# Altium footprint library Embedded.PcbLib: 6 footprints (part 1 of 2)
Each footprint in its own frame and in the unit in brackets; x right, y up, seen from the top. Pads: shape width x height; smd on the part's side, far side on the other; paste and mask are expansions set on the pad; w line width, h text height; cw(c..) or ccw(c..) is an arc to the next point about the centre after c.
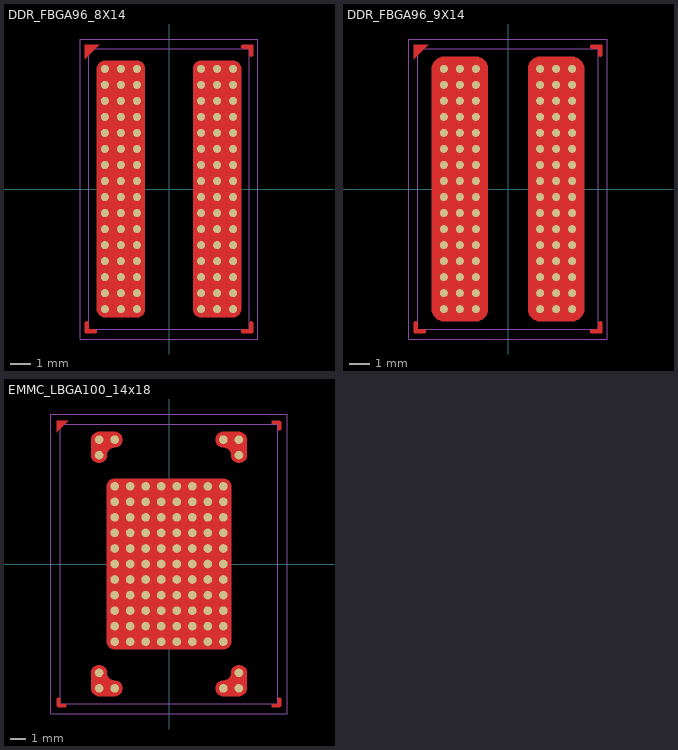
[diagram p0: the footprints below, top view; thin cyan lines are the x and y axes]

## DDR_FBGA96_8X14 [mil] "DDR_8X14"
height 43.31
pads (96):
  round 16 smd mask+2: A1(-125.98,236.22) A2(-94.49,236.22) A3(-62.99,236.22) A7(62.99,236.22) A8(94.49,236.22) A9(125.98,236.22) B1(-125.98,204.72) B2(-94.49,204.72) B3(-62.99,204.72) B7(62.99,204.72) B8(94.49,204.72) B9(125.98,204.72) C1(-125.98,173.23) C2(-94.49,173.23) C3(-62.99,173.23) C7(62.99,173.23) C8(94.49,173.23) C9(125.98,173.23) D1(-125.98,141.73) D2(-94.49,141.73) D3(-62.99,141.73) D7(62.99,141.73) D8(94.49,141.73) D9(125.98,141.73) E1(-125.98,110.24) E2(-94.49,110.24) E3(-62.99,110.24) E7(62.99,110.24) E8(94.49,110.24) E9(125.98,110.24) F1(-125.98,78.74) F2(-94.49,78.74) F3(-62.99,78.74) F7(62.99,78.74) F8(94.49,78.74) F9(125.98,78.74) G1(-125.98,47.24) G2(-94.49,47.24) G3(-62.99,47.24) G7(62.99,47.24) G8(94.49,47.24) G9(125.98,47.24) H1(-125.98,15.75) H2(-94.49,15.75) H3(-62.99,15.75) H7(62.99,15.75) H8(94.49,15.75) H9(125.98,15.75) J1(-125.98,-15.75) J2(-94.49,-15.75) J3(-62.99,-15.75) J7(62.99,-15.75) J8(94.49,-15.75) J9(125.98,-15.75) K1(-125.98,-47.24) K2(-94.49,-47.24) K3(-62.99,-47.24) K7(62.99,-47.24) K8(94.49,-47.24) K9(125.98,-47.24) L1(-125.98,-78.74) L2(-94.49,-78.74) L3(-62.99,-78.74) L7(62.99,-78.74) L8(94.49,-78.74) L9(125.98,-78.74) M1(-125.98,-110.24) M2(-94.49,-110.24) M3(-62.99,-110.24) M7(62.99,-110.24) M8(94.49,-110.24) M9(125.98,-110.24) N1(-125.98,-141.73) N2(-94.49,-141.73) N3(-62.99,-141.73) N7(62.99,-141.73) N8(94.49,-141.73) N9(125.98,-141.73) P1(-125.98,-173.23) P2(-94.49,-173.23) P3(-62.99,-173.23) P7(62.99,-173.23) P8(94.49,-173.23) P9(125.98,-173.23) R1(-125.98,-204.72) R2(-94.49,-204.72) R3(-62.99,-204.72) R7(62.99,-204.72) R8(94.49,-204.72) R9(125.98,-204.72) T1(-125.98,-236.22) T2(-94.49,-236.22) T3(-62.99,-236.22) T7(62.99,-236.22) T8(94.49,-236.22) T9(125.98,-236.22)
Top Layer:
  pour cut-out: -62.99,251.97 -125.98,251.97 -129.12,251.97 -134.9,249.57 -139.33,245.14 -141.73,239.35 -141.73,236.22 -141.73,-236.22 -141.73,-239.35 -139.33,-245.14 -134.9,-249.57 -129.12,-251.97 -125.98,-251.97 -62.99,-251.97 -59.86,-251.97 -54.07,-249.57 -49.64,-245.14 -47.24,-239.35 -47.24,-236.22 -47.24,236.22 -47.24,239.35 -49.64,245.14 -54.07,249.57 -59.86,251.97
  pour cut-out: 125.98,251.97 62.99,251.97 59.86,251.97 54.07,249.57 49.64,245.14 47.24,239.35 47.24,236.22 47.24,-236.22 47.24,-239.35 49.64,-245.14 54.07,-249.57 59.86,-251.97 62.99,-251.97 125.98,-251.97 129.12,-251.97 134.9,-249.57 139.33,-245.14 141.73,-239.35 141.73,-236.22 141.73,236.22 141.73,239.35 139.33,245.14 134.9,249.57 129.12,251.97
  region: 157.94,264.06 157.94,263.26 158.55,261.79 159.68,260.66 161.15,260.06 161.94,260.06 162.74,260.06 164.21,260.66 165.34,261.79 165.94,263.26 165.94,264.06 165.94,280.06 165.94,280.85 165.34,282.32 164.21,283.45 162.74,284.06 161.94,284.06 145.94,284.06 145.15,284.06 143.68,283.45 142.55,282.32 141.94,280.85 141.94,280.06 141.94,279.26 142.55,277.79 143.68,276.66 145.15,276.06 145.94,276.06 155.94,276.06 156.34,276.02 157.06,275.72 157.61,275.17 157.91,274.45 157.94,274.06
  region: 145.94,-276.06 145.15,-276.06 143.68,-276.66 142.55,-277.79 141.94,-279.26 141.94,-280.06 141.94,-280.85 142.55,-282.32 143.68,-283.45 145.15,-284.06 145.94,-284.06 161.94,-284.06 162.74,-284.06 164.21,-283.45 165.34,-282.32 165.94,-280.85 165.94,-280.06 165.94,-264.06 165.94,-263.26 165.34,-261.79 164.21,-260.66 162.74,-260.06 161.94,-260.06 161.15,-260.06 159.68,-260.66 158.55,-261.79 157.94,-263.26 157.94,-264.06 157.94,-274.06 157.91,-274.45 157.61,-275.17 157.06,-275.72 156.34,-276.02 155.94,-276.06
  region: -157.94,-264.06 -157.94,-263.26 -158.55,-261.79 -159.68,-260.66 -161.15,-260.06 -161.94,-260.06 -162.74,-260.06 -164.21,-260.66 -165.34,-261.79 -165.94,-263.26 -165.94,-264.06 -165.94,-280.06 -165.94,-280.85 -165.34,-282.32 -164.21,-283.45 -162.74,-284.06 -161.94,-284.06 -145.94,-284.06 -145.15,-284.06 -143.68,-283.45 -142.55,-282.32 -141.94,-280.85 -141.94,-280.06 -141.94,-279.26 -142.55,-277.79 -143.68,-276.66 -145.15,-276.06 -145.94,-276.06 -155.94,-276.06 -156.34,-276.02 -157.06,-275.72 -157.61,-275.17 -157.91,-274.45 -157.94,-274.06
  region: -165.94,284.06 -165.94,255.51 -137.4,284.06
Top Component Outline:
  lines w1: -175,-295 175,-295 175,295 -175,295 -175,-295
Top 3D Body (Mech16):
  lines w1: -157.48,-275.59 -157.48,275.59 157.48,275.59 157.48,-275.59 -157.48,-275.59
3D body: height 16.84, standoff -2.84, extent -135.79,226.33 -116.19,245.91
3D body: height 16.84, standoff -2.84, extent -135.79,194.83 -116.19,214.42
3D body: height 16.84, standoff -2.84, extent -135.79,163.34 -116.19,182.92
3D body: height 16.84, standoff -2.84, extent -135.79,131.84 -116.19,151.42
3D body: height 16.84, standoff -2.84, extent -135.79,5.86 -116.19,25.44
3D body: height 16.84, standoff -2.84, extent -135.79,37.35 -116.19,56.94
3D body: height 16.84, standoff -2.84, extent -135.79,68.85 -116.19,88.43
3D body: height 16.84, standoff -2.84, extent -135.79,100.34 -116.19,119.93
3D body: height 16.84, standoff -2.84, extent -135.79,-120.13 -116.19,-100.55
3D body: height 16.84, standoff -2.84, extent -135.79,-88.63 -116.19,-69.05
3D body: height 16.84, standoff -2.84, extent -135.79,-57.14 -116.19,-37.55
3D body: height 16.84, standoff -2.84, extent -135.79,-25.64 -116.19,-6.06
3D body: height 16.84, standoff -2.84, extent -135.79,-246.11 -116.19,-226.53
3D body: height 16.84, standoff -2.84, extent -135.79,-214.62 -116.19,-195.03
3D body: height 16.84, standoff -2.84, extent -135.79,-183.12 -116.19,-163.54
3D body: height 16.84, standoff -2.84, extent -135.79,-151.63 -116.19,-132.04
3D body: height 16.84, standoff -2.84, extent -104.29,226.33 -84.69,245.91
3D body: height 16.84, standoff -2.84, extent -104.29,194.83 -84.69,214.42
3D body: height 16.84, standoff -2.84, extent -104.29,163.34 -84.69,182.92
3D body: height 16.84, standoff -2.84, extent -104.29,131.84 -84.69,151.42
3D body: height 16.84, standoff -2.84, extent -104.29,5.86 -84.69,25.44
3D body: height 16.84, standoff -2.84, extent -104.29,37.35 -84.69,56.94
3D body: height 16.84, standoff -2.84, extent -104.29,68.85 -84.69,88.43
3D body: height 16.84, standoff -2.84, extent -104.29,100.34 -84.69,119.93
3D body: height 16.84, standoff -2.84, extent -104.29,-120.13 -84.69,-100.55
3D body: height 16.84, standoff -2.84, extent -104.29,-88.63 -84.69,-69.05
3D body: height 16.84, standoff -2.84, extent -104.29,-57.14 -84.69,-37.55
3D body: height 16.84, standoff -2.84, extent -104.29,-25.64 -84.69,-6.06
3D body: height 16.84, standoff -2.84, extent -104.29,-246.11 -84.69,-226.53
3D body: height 16.84, standoff -2.84, extent -104.29,-214.62 -84.69,-195.03
3D body: height 16.84, standoff -2.84, extent -104.29,-183.12 -84.69,-163.54
3D body: height 16.84, standoff -2.84, extent -104.29,-151.63 -84.69,-132.04
3D body: height 16.84, standoff -2.84, extent -72.8,226.33 -53.19,245.91
3D body: height 16.84, standoff -2.84, extent -72.8,194.83 -53.19,214.42
3D body: height 16.84, standoff -2.84, extent -72.8,163.34 -53.19,182.92
3D body: height 16.84, standoff -2.84, extent -72.8,131.84 -53.19,151.42
3D body: height 16.84, standoff -2.84, extent -72.8,5.86 -53.19,25.44
3D body: height 16.84, standoff -2.84, extent -72.8,37.35 -53.19,56.94
3D body: height 16.84, standoff -2.84, extent -72.8,68.85 -53.19,88.43
3D body: height 16.84, standoff -2.84, extent -72.8,100.34 -53.19,119.93
3D body: height 16.84, standoff -2.84, extent -72.8,-120.13 -53.19,-100.55
3D body: height 16.84, standoff -2.84, extent -72.8,-88.63 -53.19,-69.05
3D body: height 16.84, standoff -2.84, extent -72.8,-57.14 -53.19,-37.55
3D body: height 16.84, standoff -2.84, extent -72.8,-25.64 -53.19,-6.06
3D body: height 16.84, standoff -2.84, extent -72.8,-246.11 -53.19,-226.53
3D body: height 16.84, standoff -2.84, extent -72.8,-214.62 -53.19,-195.03
3D body: height 16.84, standoff -2.84, extent -72.8,-183.12 -53.19,-163.54
3D body: height 16.84, standoff -2.84, extent -72.8,-151.63 -53.19,-132.04
3D body: height 16.84, standoff -2.84, extent 53.19,226.33 72.79,245.91
3D body: height 16.84, standoff -2.84, extent 53.19,194.83 72.79,214.42
3D body: height 16.84, standoff -2.84, extent 53.19,163.34 72.79,182.92
3D body: height 16.84, standoff -2.84, extent 53.19,131.84 72.79,151.42
3D body: height 16.84, standoff -2.84, extent 53.19,5.86 72.79,25.44
3D body: height 16.84, standoff -2.84, extent 53.19,37.35 72.79,56.94
3D body: height 16.84, standoff -2.84, extent 53.19,68.85 72.79,88.43
3D body: height 16.84, standoff -2.84, extent 53.19,100.34 72.79,119.93
3D body: height 16.84, standoff -2.84, extent 53.19,-120.13 72.79,-100.55
3D body: height 16.84, standoff -2.84, extent 53.19,-88.63 72.79,-69.05
3D body: height 16.84, standoff -2.84, extent 53.19,-57.14 72.79,-37.55
3D body: height 16.84, standoff -2.84, extent 53.19,-25.64 72.79,-6.06
3D body: height 16.84, standoff -2.84, extent 53.19,-246.11 72.79,-226.53
3D body: height 16.84, standoff -2.84, extent 53.19,-214.62 72.79,-195.03
3D body: height 16.84, standoff -2.84, extent 53.19,-183.12 72.79,-163.54
3D body: height 16.84, standoff -2.84, extent 53.19,-151.63 72.79,-132.04
3D body: height 16.84, standoff -2.84, extent 84.68,226.33 104.29,245.91
3D body: height 16.84, standoff -2.84, extent 84.68,194.83 104.29,214.42
3D body: height 16.84, standoff -2.84, extent 84.68,163.34 104.29,182.92
3D body: height 16.84, standoff -2.84, extent 84.68,131.84 104.29,151.42
3D body: height 16.84, standoff -2.84, extent 84.68,5.86 104.29,25.44
3D body: height 16.84, standoff -2.84, extent 84.68,37.35 104.29,56.94
3D body: height 16.84, standoff -2.84, extent 84.68,68.85 104.29,88.43
3D body: height 16.84, standoff -2.84, extent 84.68,100.34 104.29,119.93
3D body: height 16.84, standoff -2.84, extent 84.68,-120.13 104.29,-100.55
3D body: height 16.84, standoff -2.84, extent 84.68,-88.63 104.29,-69.05
3D body: height 16.84, standoff -2.84, extent 84.68,-57.14 104.29,-37.55
3D body: height 16.84, standoff -2.84, extent 84.68,-25.64 104.29,-6.06
3D body: height 16.84, standoff -2.84, extent 84.68,-246.11 104.29,-226.53
3D body: height 16.84, standoff -2.84, extent 84.68,-214.62 104.29,-195.03
3D body: height 16.84, standoff -2.84, extent 84.68,-183.12 104.29,-163.54
3D body: height 16.84, standoff -2.84, extent 84.68,-151.63 104.29,-132.04
3D body: height 16.84, standoff -2.84, extent 116.18,226.33 135.78,245.91
3D body: height 16.84, standoff -2.84, extent 116.18,194.83 135.78,214.42
3D body: height 16.84, standoff -2.84, extent 116.18,163.34 135.78,182.92
3D body: height 16.84, standoff -2.84, extent 116.18,131.84 135.78,151.42
3D body: height 16.84, standoff -2.84, extent 116.18,5.86 135.78,25.44
3D body: height 16.84, standoff -2.84, extent 116.18,37.35 135.78,56.94
3D body: height 16.84, standoff -2.84, extent 116.18,68.85 135.78,88.43
3D body: height 16.84, standoff -2.84, extent 116.18,100.34 135.78,119.93
3D body: height 16.84, standoff -2.84, extent 116.18,-120.13 135.78,-100.55
3D body: height 16.84, standoff -2.84, extent 116.18,-88.63 135.78,-69.05
3D body: height 16.84, standoff -2.84, extent 116.18,-57.14 135.78,-37.55
3D body: height 16.84, standoff -2.84, extent 116.18,-25.64 135.78,-6.06
3D body: height 16.84, standoff -2.84, extent 116.18,-246.11 135.78,-226.53
3D body: height 16.84, standoff -2.84, extent 116.18,-214.62 135.78,-195.03
3D body: height 16.84, standoff -2.84, extent 116.18,-183.12 135.78,-163.54
3D body: height 16.84, standoff -2.84, extent 116.18,-151.63 135.78,-132.04
3D body: height 43.31, standoff 11.81, extent -157.48,-275.59 157.48,275.59
3D body: height 43.4, standoff 43, extent -135.9,235.94 -115.98,255.9

## DDR_FBGA96_9X14 [mil] "DDR3L X16 9X14MM"
pads (96):
  round 16 smd mask+2: A1(-125.98,236.22) A2(-94.49,236.22) A3(-62.99,236.22) A7(62.99,236.22) A8(94.49,236.22) A9(125.98,236.22) B1(-125.98,204.72) B2(-94.49,204.72) B3(-62.99,204.72) B7(62.99,204.72) B8(94.49,204.72) B9(125.98,204.72) C1(-125.98,173.23) C2(-94.49,173.23) C3(-62.99,173.23) C7(62.99,173.23) C8(94.49,173.23) C9(125.98,173.23) D1(-125.98,141.73) D2(-94.49,141.73) D3(-62.99,141.73) D7(62.99,141.73) D8(94.49,141.73) D9(125.98,141.73) E1(-125.98,110.24) E2(-94.49,110.24) E3(-62.99,110.24) E7(62.99,110.24) E8(94.49,110.24) E9(125.98,110.24) F1(-125.98,78.74) F2(-94.49,78.74) F3(-62.99,78.74) F7(62.99,78.74) F8(94.49,78.74) F9(125.98,78.74) G1(-125.98,47.24) G2(-94.49,47.24) G3(-62.99,47.24) G7(62.99,47.24) G8(94.49,47.24) G9(125.98,47.24) H1(-125.98,15.75) H2(-94.49,15.75) H3(-62.99,15.75) H7(62.99,15.75) H8(94.49,15.75) H9(125.98,15.75) J1(-125.98,-15.75) J2(-94.49,-15.75) J3(-62.99,-15.75) J7(62.99,-15.75) J8(94.49,-15.75) J9(125.98,-15.75) K1(-125.98,-47.24) K2(-94.49,-47.24) K3(-62.99,-47.24) K7(62.99,-47.24) K8(94.49,-47.24) K9(125.98,-47.24) L1(-125.98,-78.74) L2(-94.49,-78.74) L3(-62.99,-78.74) L7(62.99,-78.74) L8(94.49,-78.74) L9(125.98,-78.74) M1(-125.98,-110.24) M2(-94.49,-110.24) M3(-62.99,-110.24) M7(62.99,-110.24) M8(94.49,-110.24) M9(125.98,-110.24) N1(-125.98,-141.73) N2(-94.49,-141.73) N3(-62.99,-141.73) N7(62.99,-141.73) N8(94.49,-141.73) N9(125.98,-141.73) P1(-125.98,-173.23) P2(-94.49,-173.23) P3(-62.99,-173.23) P7(62.99,-173.23) P8(94.49,-173.23) P9(125.98,-173.23) R1(-125.98,-204.72) R2(-94.49,-204.72) R3(-62.99,-204.72) R7(62.99,-204.72) R8(94.49,-204.72) R9(125.98,-204.72) T1(-125.98,-236.22) T2(-94.49,-236.22) T3(-62.99,-236.22) T7(62.99,-236.22) T8(94.49,-236.22) T9(125.98,-236.22)
Top Layer:
  region: -185.63,284.06 -185.63,255.51 -157.09,284.06
  pour cut-out: 62.99,259.84 125.98,259.84 130.68,259.84 139.37,256.25 146.01,249.6 149.61,240.92 149.61,236.22 149.61,-236.22 149.61,-240.92 146.01,-249.6 139.37,-256.25 130.68,-259.84 125.98,-259.84 62.99,-259.84 58.29,-259.84 49.61,-256.25 42.97,-249.6 39.37,-240.92 39.37,-236.22 39.37,236.22 39.37,240.92 42.97,249.6 49.61,256.25 58.29,259.84
  pour cut-out: -125.98,259.84 -62.99,259.84 -58.29,259.84 -49.61,256.25 -42.97,249.6 -39.37,240.92 -39.37,236.22 -39.37,-236.22 -39.37,-240.92 -42.97,-249.6 -49.61,-256.25 -58.29,-259.84 -62.99,-259.84 -125.98,-259.84 -130.68,-259.84 -139.37,-256.25 -146.01,-249.6 -149.61,-240.92 -149.61,-236.22 -149.61,236.22 -149.61,240.92 -146.01,249.6 -139.37,256.25 -130.68,259.84
  region: 177.63,264.06 177.63,263.26 178.24,261.79 179.36,260.66 180.83,260.06 181.63,260.06 182.43,260.06 183.9,260.66 185.02,261.79 185.63,263.26 185.63,264.06 185.63,280.06 185.63,280.85 185.02,282.32 183.9,283.45 182.43,284.06 181.63,284.06 165.63,284.06 164.83,284.06 163.36,283.45 162.24,282.32 161.63,280.85 161.63,280.06 161.63,279.26 162.24,277.79 163.36,276.66 164.83,276.06 165.63,276.06 175.63,276.06 176.02,276.02 176.74,275.72 177.29,275.17 177.59,274.45 177.63,274.06
  region: 165.63,-276.06 164.83,-276.06 163.36,-276.66 162.24,-277.79 161.63,-279.26 161.63,-280.06 161.63,-280.85 162.24,-282.32 163.36,-283.45 164.83,-284.06 165.63,-284.06 181.63,-284.06 182.43,-284.06 183.9,-283.45 185.02,-282.32 185.63,-280.85 185.63,-280.06 185.63,-264.06 185.63,-263.26 185.02,-261.79 183.9,-260.66 182.43,-260.06 181.63,-260.06 180.83,-260.06 179.36,-260.66 178.24,-261.79 177.63,-263.26 177.63,-264.06 177.63,-274.06 177.59,-274.45 177.29,-275.17 176.74,-275.72 176.02,-276.02 175.63,-276.06
  region: -177.63,-264.06 -177.63,-263.26 -178.24,-261.79 -179.36,-260.66 -180.83,-260.06 -181.63,-260.06 -182.43,-260.06 -183.9,-260.66 -185.02,-261.79 -185.63,-263.26 -185.63,-264.06 -185.63,-280.06 -185.63,-280.85 -185.02,-282.32 -183.9,-283.45 -182.43,-284.06 -181.63,-284.06 -165.63,-284.06 -164.83,-284.06 -163.36,-283.45 -162.24,-282.32 -161.63,-280.85 -161.63,-280.06 -161.63,-279.26 -162.24,-277.79 -163.36,-276.66 -164.83,-276.06 -165.63,-276.06 -175.63,-276.06 -176.02,-276.02 -176.74,-275.72 -177.29,-275.17 -177.59,-274.45 -177.63,-274.06
Top Component Outline:
  lines w1: -195,-295 195,-295 195,295 -195,295 -195,-295
Top 3D Body (Mech16):
  lines w1: -177.17,-275.59 177.17,-275.59 177.17,275.59 -177.17,275.59 -177.17,-275.59
3D body: height 43.31, standoff 11.81, extent -177.17,-275.59 177.17,275.59
3D body: height 16.84, standoff -2.84, extent 116.18,-151.63 135.78,-132.04
3D body: height 16.84, standoff -2.84, extent 116.18,-183.12 135.78,-163.54
3D body: height 16.84, standoff -2.84, extent 116.18,-214.62 135.78,-195.03
3D body: height 16.84, standoff -2.84, extent 116.18,-246.11 135.78,-226.53
3D body: height 16.84, standoff -2.84, extent 116.18,-25.64 135.78,-6.06
3D body: height 16.84, standoff -2.84, extent 116.18,-57.14 135.78,-37.55
3D body: height 16.84, standoff -2.84, extent 116.18,-88.63 135.78,-69.05
3D body: height 16.84, standoff -2.84, extent 116.18,-120.13 135.78,-100.55
3D body: height 16.84, standoff -2.84, extent 116.18,100.34 135.78,119.93
3D body: height 16.84, standoff -2.84, extent 116.18,68.85 135.78,88.43
3D body: height 16.84, standoff -2.84, extent 116.18,37.35 135.78,56.94
3D body: height 16.84, standoff -2.84, extent 116.18,5.86 135.78,25.44
3D body: height 16.84, standoff -2.84, extent 116.18,131.84 135.78,151.42
3D body: height 16.84, standoff -2.84, extent 116.18,163.34 135.78,182.92
3D body: height 16.84, standoff -2.84, extent 116.18,194.83 135.78,214.42
3D body: height 16.84, standoff -2.84, extent 116.18,226.33 135.78,245.91
3D body: height 16.84, standoff -2.84, extent 84.68,-151.63 104.29,-132.04
3D body: height 16.84, standoff -2.84, extent 84.68,-183.12 104.29,-163.54
3D body: height 16.84, standoff -2.84, extent 84.68,-214.62 104.29,-195.03
3D body: height 16.84, standoff -2.84, extent 84.68,-246.11 104.29,-226.53
3D body: height 16.84, standoff -2.84, extent 84.68,-25.64 104.29,-6.06
3D body: height 16.84, standoff -2.84, extent 84.68,-57.14 104.29,-37.55
3D body: height 16.84, standoff -2.84, extent 84.68,-88.63 104.29,-69.05
3D body: height 16.84, standoff -2.84, extent 84.68,-120.13 104.29,-100.55
3D body: height 16.84, standoff -2.84, extent 84.68,100.34 104.29,119.93
3D body: height 16.84, standoff -2.84, extent 84.68,68.85 104.29,88.43
3D body: height 16.84, standoff -2.84, extent 84.68,37.35 104.29,56.94
3D body: height 16.84, standoff -2.84, extent 84.68,5.86 104.29,25.44
3D body: height 16.84, standoff -2.84, extent 84.68,131.84 104.29,151.42
3D body: height 16.84, standoff -2.84, extent 84.68,163.34 104.29,182.92
3D body: height 16.84, standoff -2.84, extent 84.68,194.83 104.29,214.42
3D body: height 16.84, standoff -2.84, extent 84.68,226.33 104.29,245.91
3D body: height 16.84, standoff -2.84, extent 53.19,-151.63 72.79,-132.04
3D body: height 16.84, standoff -2.84, extent 53.19,-183.12 72.79,-163.54
3D body: height 16.84, standoff -2.84, extent 53.19,-214.62 72.79,-195.03
3D body: height 16.84, standoff -2.84, extent 53.19,-246.11 72.79,-226.53
3D body: height 16.84, standoff -2.84, extent 53.19,-25.64 72.79,-6.06
3D body: height 16.84, standoff -2.84, extent 53.19,-57.14 72.79,-37.55
3D body: height 16.84, standoff -2.84, extent 53.19,-88.63 72.79,-69.05
3D body: height 16.84, standoff -2.84, extent 53.19,-120.13 72.79,-100.55
3D body: height 16.84, standoff -2.84, extent 53.19,100.34 72.79,119.93
3D body: height 16.84, standoff -2.84, extent 53.19,68.85 72.79,88.43
3D body: height 16.84, standoff -2.84, extent 53.19,37.35 72.79,56.94
3D body: height 16.84, standoff -2.84, extent 53.19,5.86 72.79,25.44
3D body: height 16.84, standoff -2.84, extent 53.19,131.84 72.79,151.42
3D body: height 16.84, standoff -2.84, extent 53.19,163.34 72.79,182.92
3D body: height 16.84, standoff -2.84, extent 53.19,194.83 72.79,214.42
3D body: height 16.84, standoff -2.84, extent 53.19,226.33 72.79,245.91
3D body: height 16.84, standoff -2.84, extent -72.8,-151.63 -53.19,-132.04
3D body: height 16.84, standoff -2.84, extent -72.8,-183.12 -53.19,-163.54
3D body: height 16.84, standoff -2.84, extent -72.8,-214.62 -53.19,-195.03
3D body: height 16.84, standoff -2.84, extent -72.8,-246.11 -53.19,-226.53
3D body: height 16.84, standoff -2.84, extent -72.8,-25.64 -53.19,-6.06
3D body: height 16.84, standoff -2.84, extent -72.8,-57.14 -53.19,-37.55
3D body: height 16.84, standoff -2.84, extent -72.8,-88.63 -53.19,-69.05
3D body: height 16.84, standoff -2.84, extent -72.8,-120.13 -53.19,-100.55
3D body: height 16.84, standoff -2.84, extent -72.8,100.34 -53.19,119.93
3D body: height 16.84, standoff -2.84, extent -72.8,68.85 -53.19,88.43
3D body: height 16.84, standoff -2.84, extent -72.8,37.35 -53.19,56.94
3D body: height 16.84, standoff -2.84, extent -72.8,5.86 -53.19,25.44
3D body: height 16.84, standoff -2.84, extent -72.8,131.84 -53.19,151.42
3D body: height 16.84, standoff -2.84, extent -72.8,163.34 -53.19,182.92
3D body: height 16.84, standoff -2.84, extent -72.8,194.83 -53.19,214.42
3D body: height 16.84, standoff -2.84, extent -72.8,226.33 -53.19,245.91
3D body: height 16.84, standoff -2.84, extent -104.29,-151.63 -84.69,-132.04
3D body: height 16.84, standoff -2.84, extent -104.29,-183.12 -84.69,-163.54
3D body: height 16.84, standoff -2.84, extent -104.29,-214.62 -84.69,-195.03
3D body: height 16.84, standoff -2.84, extent -104.29,-246.11 -84.69,-226.53
3D body: height 16.84, standoff -2.84, extent -104.29,-25.64 -84.69,-6.06
3D body: height 16.84, standoff -2.84, extent -104.29,-57.14 -84.69,-37.55
3D body: height 16.84, standoff -2.84, extent -104.29,-88.63 -84.69,-69.05
3D body: height 16.84, standoff -2.84, extent -104.29,-120.13 -84.69,-100.55
3D body: height 16.84, standoff -2.84, extent -104.29,100.34 -84.69,119.93
3D body: height 16.84, standoff -2.84, extent -104.29,68.85 -84.69,88.43
3D body: height 16.84, standoff -2.84, extent -104.29,37.35 -84.69,56.94
3D body: height 16.84, standoff -2.84, extent -104.29,5.86 -84.69,25.44
3D body: height 16.84, standoff -2.84, extent -104.29,131.84 -84.69,151.42
3D body: height 16.84, standoff -2.84, extent -104.29,163.34 -84.69,182.92
3D body: height 16.84, standoff -2.84, extent -104.29,194.83 -84.69,214.42
3D body: height 16.84, standoff -2.84, extent -104.29,226.33 -84.69,245.91
3D body: height 16.84, standoff -2.84, extent -135.79,-151.63 -116.19,-132.04
3D body: height 16.84, standoff -2.84, extent -135.79,-183.12 -116.19,-163.54
3D body: height 16.84, standoff -2.84, extent -135.79,-214.62 -116.19,-195.03
3D body: height 16.84, standoff -2.84, extent -135.79,-246.11 -116.19,-226.53
3D body: height 16.84, standoff -2.84, extent -135.79,-25.64 -116.19,-6.06
3D body: height 16.84, standoff -2.84, extent -135.79,-57.14 -116.19,-37.55
3D body: height 16.84, standoff -2.84, extent -135.79,-88.63 -116.19,-69.05
3D body: height 16.84, standoff -2.84, extent -135.79,-120.13 -116.19,-100.55
3D body: height 16.84, standoff -2.84, extent -135.79,100.34 -116.19,119.93
3D body: height 16.84, standoff -2.84, extent -135.79,68.85 -116.19,88.43
3D body: height 16.84, standoff -2.84, extent -135.79,37.35 -116.19,56.94
3D body: height 16.84, standoff -2.84, extent -135.79,5.86 -116.19,25.44
3D body: height 16.84, standoff -2.84, extent -135.79,131.84 -116.19,151.42
3D body: height 16.84, standoff -2.84, extent -135.79,163.34 -116.19,182.92
3D body: height 16.84, standoff -2.84, extent -135.79,194.83 -116.19,214.42
3D body: height 16.84, standoff -2.84, extent -135.79,226.33 -116.19,245.91

## EMMC_LBGA100_14x18 [mil]
pads (100):
  round 22 smd mask+2: A1(-177.17,314.96) A2(-137.8,314.96) A9(137.8,314.96) A10(177.17,314.96) B1(-177.17,275.59) B10(177.17,275.59) D2(-137.8,196.85) D3(-98.43,196.85) D4(-59.06,196.85) D5(-19.68,196.85) D6(19.69,196.85) D7(59.06,196.85) D8(98.43,196.85) D9(137.8,196.85) E2(-137.8,157.48) E3(-98.43,157.48) E4(-59.06,157.48) E5(-19.68,157.48) E6(19.69,157.48) E7(59.06,157.48) E8(98.43,157.48) E9(137.8,157.48) F2(-137.8,118.11) F3(-98.43,118.11) F4(-59.06,118.11) F5(-19.68,118.11) F6(19.69,118.11) F7(59.06,118.11) F8(98.43,118.11) F9(137.8,118.11) G2(-137.8,78.74) G3(-98.43,78.74) G4(-59.06,78.74) G5(-19.68,78.74) G6(19.69,78.74) G7(59.06,78.74) G8(98.43,78.74) G9(137.8,78.74) H2(-137.8,39.37) H3(-98.43,39.37) H4(-59.06,39.37) H5(-19.68,39.37) H6(19.69,39.37) H7(59.06,39.37) H8(98.43,39.37) H9(137.8,39.37) J2(-137.8,0) J3(-98.43,0) J4(-59.06,0) J5(-19.68,0) J6(19.69,0) J7(59.06,0) J8(98.43,0) J9(137.8,0) K2(-137.8,-39.37) K3(-98.43,-39.37) K4(-59.06,-39.37) K5(-19.68,-39.37) K6(19.69,-39.37) K7(59.06,-39.37) K8(98.43,-39.37) K9(137.8,-39.37) L2(-137.8,-78.74) L3(-98.43,-78.74) L4(-59.06,-78.74) L5(-19.68,-78.74) L6(19.69,-78.74) L7(59.06,-78.74) L8(98.43,-78.74) L9(137.8,-78.74) M2(-137.8,-118.11) M3(-98.43,-118.11) M4(-59.06,-118.11) M5(-19.68,-118.11) M6(19.69,-118.11) M7(59.06,-118.11) M8(98.43,-118.11) M9(137.8,-118.11) N2(-137.8,-157.48) N3(-98.43,-157.48) N4(-59.06,-157.48) N5(-19.68,-157.48) N6(19.69,-157.48) N7(59.06,-157.48) N8(98.43,-157.48) N9(137.8,-157.48) P2(-137.8,-196.85) P3(-98.43,-196.85) P4(-59.06,-196.85) P5(-19.68,-196.85) P6(19.69,-196.85) P7(59.06,-196.85) P8(98.43,-196.85) P9(137.8,-196.85) T1(-177.17,-275.59) T10(177.17,-275.59) U1(-177.17,-314.96) U2(-137.8,-314.96) U9(137.8,-314.96) U10(177.17,-314.96)
Top Layer:
  pour cut-out: -196.85,314.96 -196.85,318.88 -193.85,326.11 -188.32,331.65 -181.08,334.65 -177.17,334.65 -137.8,334.65 -133.88,334.65 -126.64,331.65 -121.11,326.11 -118.11,318.88 -118.11,314.96 -118.11,311.05 -121.11,303.81 -126.64,298.27 -133.88,295.28 -137.8,295.28 -141.64,294.9 -148.73,291.96 -154.16,286.53 -157.1,279.43 -157.48,275.59 -157.48,271.68 -160.48,264.44 -166.01,258.9 -173.25,255.91 -177.17,255.91 -181.08,255.91 -188.32,258.9 -193.85,264.44 -196.85,271.68 -196.85,275.59
  pour cut-out: 177.17,334.65 181.08,334.65 188.32,331.65 193.85,326.11 196.85,318.88 196.85,314.96 196.85,275.59 196.85,271.68 193.85,264.44 188.32,258.9 181.08,255.91 177.17,255.91 173.25,255.91 166.01,258.9 160.48,264.44 157.48,271.68 157.48,275.59 157.1,279.43 154.16,286.53 148.73,291.96 141.64,294.9 137.8,295.28 133.88,295.28 126.64,298.27 121.11,303.81 118.11,311.05 118.11,314.96 118.11,318.88 121.11,326.11 126.64,331.65 133.88,334.65 137.8,334.65
  pour cut-out: 196.85,-314.96 196.85,-318.88 193.85,-326.11 188.32,-331.65 181.08,-334.65 177.17,-334.65 137.8,-334.65 133.88,-334.65 126.64,-331.65 121.11,-326.11 118.11,-318.88 118.11,-314.96 118.11,-311.05 121.11,-303.81 126.64,-298.27 133.88,-295.28 137.8,-295.28 141.64,-294.9 148.73,-291.96 154.16,-286.53 157.1,-279.43 157.48,-275.59 157.48,-271.68 160.48,-264.44 166.01,-258.9 173.25,-255.91 177.17,-255.91 181.08,-255.91 188.32,-258.9 193.85,-264.44 196.85,-271.68 196.85,-275.59
  pour cut-out: -177.17,-334.65 -181.08,-334.65 -188.32,-331.65 -193.85,-326.11 -196.85,-318.88 -196.85,-314.96 -196.85,-275.59 -196.85,-271.68 -193.85,-264.44 -188.32,-258.9 -181.08,-255.91 -177.17,-255.91 -173.25,-255.91 -166.01,-258.9 -160.48,-264.44 -157.48,-271.68 -157.48,-275.59 -157.1,-279.43 -154.16,-286.53 -148.73,-291.96 -141.64,-294.9 -137.8,-295.28 -133.88,-295.28 -126.64,-298.27 -121.11,-303.81 -118.11,-311.05 -118.11,-314.96 -118.11,-318.88 -121.11,-326.11 -126.64,-331.65 -133.88,-334.65 -137.8,-334.65
  region: -284.06,362.8 -284.06,334.25 -255.51,362.8
  region: 276.06,342.8 276.06,342 276.66,340.53 277.79,339.4 279.26,338.8 280.06,338.8 280.85,338.8 282.32,339.4 283.45,340.53 284.06,342 284.06,342.8 284.06,358.8 284.06,359.59 283.45,361.06 282.32,362.19 280.85,362.8 280.06,362.8 264.06,362.8 263.26,362.8 261.79,362.19 260.66,361.06 260.06,359.59 260.06,358.8 260.06,358 260.66,356.53 261.79,355.4 263.26,354.8 264.06,354.8 274.06,354.8 274.45,354.76 275.17,354.46 275.72,353.91 276.02,353.19 276.06,352.8
  region: -276.05,-342.8 -276.05,-342 -276.66,-340.53 -277.79,-339.4 -279.26,-338.8 -280.05,-338.8 -280.85,-338.8 -282.32,-339.4 -283.45,-340.53 -284.05,-342 -284.05,-342.8 -284.05,-358.8 -284.05,-359.59 -283.45,-361.06 -282.32,-362.19 -280.85,-362.8 -280.05,-362.8 -264.05,-362.8 -263.26,-362.8 -261.79,-362.19 -260.66,-361.06 -260.05,-359.59 -260.05,-358.8 -260.05,-358 -260.66,-356.53 -261.79,-355.4 -263.26,-354.8 -264.05,-354.8 -274.05,-354.8 -274.44,-354.76 -275.17,-354.46 -275.72,-353.91 -276.02,-353.19 -276.05,-352.8
  region: 264.06,-354.8 263.26,-354.8 261.79,-355.4 260.66,-356.53 260.06,-358 260.06,-358.8 260.06,-359.59 260.66,-361.06 261.79,-362.19 263.26,-362.8 264.06,-362.8 280.06,-362.8 280.85,-362.8 282.32,-362.19 283.45,-361.06 284.06,-359.59 284.06,-358.8 284.06,-342.8 284.06,-342 283.45,-340.53 282.32,-339.4 280.85,-338.8 280.06,-338.8 279.26,-338.8 277.79,-339.4 276.66,-340.53 276.06,-342 276.06,-342.8 276.06,-352.8 276.02,-353.19 275.72,-353.91 275.17,-354.46 274.45,-354.76 274.06,-354.8
  pour cut-out: -137.8,216.54 -141.71,216.54 -148.95,213.54 -154.48,208 -157.48,200.77 -157.48,196.85 -157.48,-196.85 -157.48,-200.77 -154.48,-208 -148.95,-213.54 -141.71,-216.54 -137.8,-216.54 137.8,-216.54 141.71,-216.54 148.95,-213.54 154.48,-208 157.48,-200.77 157.48,-196.85 157.48,196.85 157.48,200.77 154.48,208 148.95,213.54 141.71,216.54 137.8,216.54
Top Component Outline:
  lines w1: -300,-380 300,-380 300,380 -300,380 -300,-380
Top 3D Body (Mech16):
  lines w1: -275.59,-354.33 275.59,-354.33 275.59,354.33 -275.59,354.33 -275.59,-354.33
3D body: height 17.43, standoff -3.43, extent -187.74,265.16 -166.89,286.03
3D body: height 17.43, standoff -3.43, extent -187.74,304.53 -166.89,325.4
3D body: height 17.43, standoff -3.43, extent -148.37,304.53 -127.52,325.4
3D body: height 17.43, standoff -3.43, extent 127.37,304.68 148.23,325.54
3D body: height 17.43, standoff -3.43, extent 166.74,304.68 187.6,325.54
3D body: height 17.43, standoff -3.43, extent 166.74,265.31 187.6,286.17
3D body: height 17.43, standoff -3.43, extent 166.89,-286.03 187.74,-265.16
3D body: height 17.43, standoff -3.43, extent 166.89,-325.4 187.74,-304.53
3D body: height 17.43, standoff -3.43, extent 127.52,-325.4 148.37,-304.53
3D body: height 17.43, standoff -3.43, extent -187.6,-286.17 -166.74,-265.31
3D body: height 17.43, standoff -3.43, extent -187.6,-325.54 -166.74,-304.68
3D body: height 17.43, standoff -3.43, extent -148.23,-325.54 -127.37,-304.68
3D body: height 17.43, standoff -3.43, extent -148.23,-207.43 -127.37,-186.57
3D body: height 17.43, standoff -3.43, extent -108.86,-207.43 -88,-186.57
3D body: height 17.43, standoff -3.43, extent -69.49,-207.43 -48.63,-186.57
3D body: height 17.43, standoff -3.43, extent -30.12,-207.43 -9.26,-186.57
3D body: height 17.43, standoff -3.43, extent 9.25,-207.43 30.11,-186.57
3D body: height 17.43, standoff -3.43, extent 48.62,-207.43 69.48,-186.57
3D body: height 17.43, standoff -3.43, extent 87.99,-207.43 108.85,-186.57
3D body: height 17.43, standoff -3.43, extent 127.36,-207.43 148.22,-186.57
3D body: height 17.43, standoff -3.43, extent -148.23,-168.06 -127.37,-147.2
3D body: height 17.43, standoff -3.43, extent -108.86,-168.06 -88,-147.2
3D body: height 17.43, standoff -3.43, extent -69.49,-168.06 -48.63,-147.2
3D body: height 17.43, standoff -3.43, extent -30.12,-168.06 -9.26,-147.2
3D body: height 17.43, standoff -3.43, extent 9.25,-168.06 30.11,-147.2
3D body: height 17.43, standoff -3.43, extent 48.62,-168.06 69.48,-147.2
3D body: height 17.43, standoff -3.43, extent 87.99,-168.06 108.85,-147.2
3D body: height 17.43, standoff -3.43, extent 127.36,-168.06 148.22,-147.2
3D body: height 17.43, standoff -3.43, extent -148.23,-128.69 -127.37,-107.83
3D body: height 17.43, standoff -3.43, extent -108.86,-128.69 -88,-107.83
3D body: height 17.43, standoff -3.43, extent -69.49,-128.69 -48.63,-107.83
3D body: height 17.43, standoff -3.43, extent -30.12,-128.69 -9.26,-107.83
3D body: height 17.43, standoff -3.43, extent 9.25,-128.69 30.11,-107.83
3D body: height 17.43, standoff -3.43, extent 48.62,-128.69 69.48,-107.83
3D body: height 17.43, standoff -3.43, extent 87.99,-128.69 108.85,-107.83
3D body: height 17.43, standoff -3.43, extent 127.36,-128.69 148.22,-107.83
3D body: height 17.43, standoff -3.43, extent -148.23,-89.32 -127.37,-68.46
3D body: height 17.43, standoff -3.43, extent -108.86,-89.32 -88,-68.46
3D body: height 17.43, standoff -3.43, extent -69.49,-89.32 -48.63,-68.46
3D body: height 17.43, standoff -3.43, extent -30.12,-89.32 -9.26,-68.46
3D body: height 17.43, standoff -3.43, extent 9.25,-89.32 30.11,-68.46
3D body: height 17.43, standoff -3.43, extent 48.62,-89.32 69.48,-68.46
3D body: height 17.43, standoff -3.43, extent 87.99,-89.32 108.85,-68.46
3D body: height 17.43, standoff -3.43, extent 127.36,-89.32 148.22,-68.46
3D body: height 17.43, standoff -3.43, extent -148.23,-49.95 -127.37,-29.09
3D body: height 17.43, standoff -3.43, extent -108.86,-49.95 -88,-29.09
3D body: height 17.43, standoff -3.43, extent -69.49,-49.95 -48.63,-29.09
3D body: height 17.43, standoff -3.43, extent -30.12,-49.95 -9.26,-29.09
3D body: height 17.43, standoff -3.43, extent 9.25,-49.95 30.11,-29.09
3D body: height 17.43, standoff -3.43, extent 48.62,-49.95 69.48,-29.09
3D body: height 17.43, standoff -3.43, extent 87.99,-49.95 108.85,-29.09
3D body: height 17.43, standoff -3.43, extent 127.36,-49.95 148.22,-29.09
3D body: height 17.43, standoff -3.43, extent -148.23,-10.58 -127.37,10.28
3D body: height 17.43, standoff -3.43, extent -108.86,-10.58 -88,10.28
3D body: height 17.43, standoff -3.43, extent -69.49,-10.58 -48.63,10.28
3D body: height 17.43, standoff -3.43, extent -30.12,-10.58 -9.26,10.28
3D body: height 17.43, standoff -3.43, extent 9.25,-10.58 30.11,10.28
3D body: height 17.43, standoff -3.43, extent 48.62,-10.58 69.48,10.28
3D body: height 17.43, standoff -3.43, extent 87.99,-10.58 108.85,10.28
3D body: height 17.43, standoff -3.43, extent 127.36,-10.58 148.22,10.28
3D body: height 17.43, standoff -3.43, extent -148.23,28.79 -127.37,49.65
3D body: height 17.43, standoff -3.43, extent -108.86,28.79 -88,49.65
3D body: height 17.43, standoff -3.43, extent -69.49,28.79 -48.63,49.65
3D body: height 17.43, standoff -3.43, extent -30.12,28.79 -9.26,49.65
3D body: height 17.43, standoff -3.43, extent 9.25,28.79 30.11,49.65
3D body: height 17.43, standoff -3.43, extent 48.62,28.79 69.48,49.65
3D body: height 17.43, standoff -3.43, extent 87.99,28.79 108.85,49.65
3D body: height 17.43, standoff -3.43, extent 127.36,28.79 148.22,49.65
3D body: height 17.43, standoff -3.43, extent -148.23,68.16 -127.37,89.02
3D body: height 17.43, standoff -3.43, extent -108.86,68.16 -88,89.02
3D body: height 17.43, standoff -3.43, extent -69.49,68.16 -48.63,89.02
3D body: height 17.43, standoff -3.43, extent -30.12,68.16 -9.26,89.02
3D body: height 17.43, standoff -3.43, extent 9.25,68.16 30.11,89.02
3D body: height 17.43, standoff -3.43, extent 48.62,68.16 69.48,89.02
3D body: height 17.43, standoff -3.43, extent 87.99,68.16 108.85,89.02
3D body: height 17.43, standoff -3.43, extent 127.36,68.16 148.22,89.02
3D body: height 17.43, standoff -3.43, extent -148.23,107.53 -127.37,128.39
3D body: height 17.43, standoff -3.43, extent -108.86,107.53 -88,128.39
3D body: height 17.43, standoff -3.43, extent -69.49,107.53 -48.63,128.39
3D body: height 17.43, standoff -3.43, extent -30.12,107.53 -9.26,128.39
3D body: height 17.43, standoff -3.43, extent 9.25,107.53 30.11,128.39
3D body: height 17.43, standoff -3.43, extent 48.62,107.53 69.48,128.39
3D body: height 17.43, standoff -3.43, extent 87.99,107.53 108.85,128.39
3D body: height 17.43, standoff -3.43, extent 127.36,107.53 148.22,128.39
3D body: height 17.43, standoff -3.43, extent -148.23,146.9 -127.37,167.76
3D body: height 17.43, standoff -3.43, extent -108.86,146.9 -88,167.76
3D body: height 17.43, standoff -3.43, extent -69.49,146.9 -48.63,167.76
3D body: height 17.43, standoff -3.43, extent -30.12,146.9 -9.26,167.76
3D body: height 17.43, standoff -3.43, extent 9.25,146.9 30.11,167.76
3D body: height 17.43, standoff -3.43, extent 48.62,146.9 69.48,167.76
3D body: height 17.43, standoff -3.43, extent 87.99,146.9 108.85,167.76
3D body: height 17.43, standoff -3.43, extent 127.36,146.9 148.22,167.76
3D body: height 17.43, standoff -3.43, extent 127.36,186.27 148.22,207.13
3D body: height 17.43, standoff -3.43, extent 87.99,186.27 108.85,207.13
3D body: height 17.43, standoff -3.43, extent 48.62,186.27 69.48,207.13
3D body: height 17.43, standoff -3.43, extent 9.25,186.27 30.11,207.13
3D body: height 17.43, standoff -3.43, extent -30.12,186.27 -9.26,207.13
3D body: height 17.43, standoff -3.43, extent -69.49,186.27 -48.63,207.13
3D body: height 17.43, standoff -3.43, extent -108.86,186.27 -88,207.13
3D body: height 17.43, standoff -3.43, extent -148.23,186.27 -127.37,207.13
3D body: height 51.18, standoff 12.2, extent -275.59,-354.33 275.59,354.33